# Altium schematic symbol library Chip_Passives.SchLib: 15 symbols
Pins are listed as number, name and electrical type; pins without a type are passive.

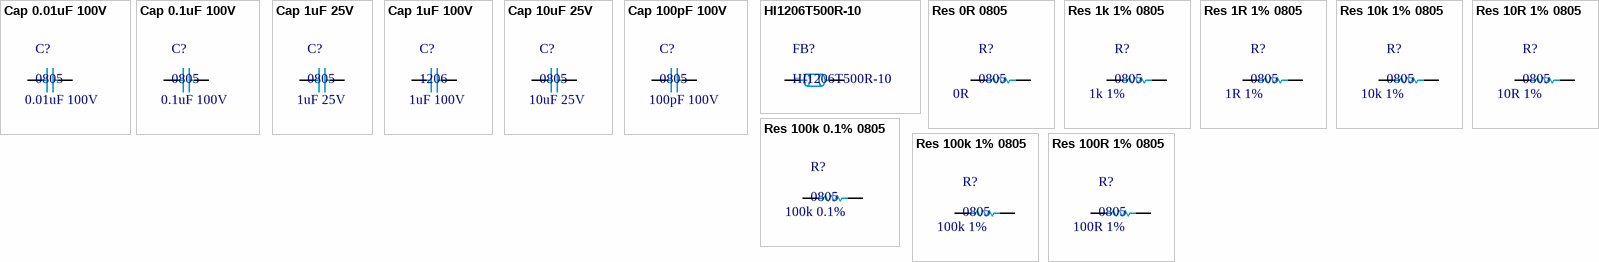
[diagram p0: symbols Cap 0.01uF 100V to Res 100R 1% 0805]

## Cap 0.01uF 100V
designator C?, comment 0805  value 0.01uF 100V
0805, X5R or better; Supplier 1: Digi-Key; Supplier Part Number 1: 1276-6845-2-ND; Supplier 2: Arrow; Supplier Part Number 2: HFLC7Kmwq4-6R2SVzaQAUvCwxvZH1YjWdj_EBba1ByE
footprint 0805 (Chip Capacitor, 2-Leads, Body 2.0x1.3mm, IPC Medium Density)
pins: 1, 2

## Cap 0.1uF 100V
designator C?, comment 0805  value 0.1uF 100V
0805, X5R or better; Supplier 1: Digi-Key; Supplier Part Number 1: 1276-6840-2-ND
footprint 0805 (Chip Capacitor, 2-Leads, Body 2.0x1.3mm, IPC Medium Density)
pins: 1, 2

## Cap 1uF 25V
designator C?, comment 0805  value 1uF 25V
0805, X5R or better; Supplier 1: Digi-Key; Supplier Part Number 1: 1276-1066-2-ND; Supplier 2: Digi-Key; Supplier Part Number 2: 1276-1066-1-ND
footprint 0805 (Chip Capacitor, 2-Leads, Body 2.0x1.3mm, IPC Medium Density)
pins: 1, 2

## Cap 1uF 100V
designator C?, comment 1206  value 1uF 100V
1206, X5R or better; Supplier 1: Digi-Key; Supplier Part Number 1: 1276-1838-1-ND
footprint 1206 (Chip Capacitor, 2-Leads, Body 3.2x1.6mm, IPC Medium Density)
pins: 1, 2

## Cap 10uF 25V
designator C?, comment 0805  value 10uF 25V
0805, X5R or better; Supplier 1: Mouser; Supplier Part Number 1: 81-GRM21BR61E106KA3L; Supplier 2: Digi-Key; Supplier Part Number 2: 490-5523-1-ND
footprint 0805 (Chip Capacitor, 2-Leads, Body 2.0x1.3mm, IPC Medium Density)
pins: 1, 2

## Cap 100pF 100V
designator C?, comment 0805  value 100pF 100V
0805, X5R or better; Supplier 1: Digi-Key; Supplier Part Number 1: 1276-2426-1-ND; Supplier 2: Digi-Key; Supplier Part Number 2: 1276-2426-2-ND; Supplier 3: Arrow; Supplier Part Number 3: L5XIfgkrxsBQF2sGZ85JNyFE59-nywaq7sHwLppiklbTEIlO4Ffw3x4_A6bjf4Mm
footprint 0805 (Chip Capacitor, 2-Leads, Body 2.0x1.3mm, IPC Medium Density)
pins: 1, 2

## HI1206T500R-10
designator FB?
50 Ohms @ 100MHz 1 Power, Signal Line Ferrite Bead 1206 (3216 Metric) 6A 10mOhm; Value: Ferrite Bead 50R 6A; Supplier 1: Digi-Key; Supplier 2: Mouser; Supplier Part Number 1: 240-2412-1-ND; Supplier Part Number 2: 875-HI1206T500R-10
footprint 1206 (Chip Capacitor, 2-Leads, Body 3.2x1.6mm, IPC Medium Density)
pins: 1, 2

## Res 0R 0805
designator R?, comment 0805  value 0R
Chip resistor; Supplier 1: Digi-Key; Supplier Part Number 1: RMCF0805ZT0R00TR-ND
footprint 0805 (Chip Capacitor, 2-Leads, Body 2.0x1.3mm, IPC Medium Density)
pins: 1, 2

## Res 1k 1% 0805
designator R?, comment 0805  value 1k 1%
Chip resistor, 1/8W 100PPM; Supplier 1: Digi-Key; Supplier Part Number 1: RMCF0805FT1K00TR-ND
footprint 0805 (Chip Capacitor, 2-Leads, Body 2.0x1.3mm, IPC Medium Density)
pins: 1, 2

## Res 1R 1% 0805
designator R?, comment 0805  value 1R 1%
Chip resistor; Supplier 1: Digi-Key; Supplier Part Number 1: RMCF0805FT1R00TR-ND; Supplier 2: Digi-Key; Supplier Part Number 2: RMCF0805FT1R00CT-ND
footprint 0805 (Chip Capacitor, 2-Leads, Body 2.0x1.3mm, IPC Medium Density)
pins: 1, 2

## Res 10k 1% 0805
designator R?, comment 0805  value 10k 1%
Chip resistor; Supplier 1: Digi-Key; Supplier Part Number 1: RMCF0805FT10K0TR-ND
footprint 0805 (Chip Capacitor, 2-Leads, Body 2.0x1.3mm, IPC Medium Density)
pins: 1, 2

## Res 10R 1% 0805
designator R?, comment 0805  value 10R 1%
Chip resistor; Supplier 1: Digi-Key; Supplier Part Number 1: RMCF0805FT10R0TR-ND
footprint 0805 (Chip Capacitor, 2-Leads, Body 2.0x1.3mm, IPC Medium Density)
pins: 1, 2

## Res 100k 0.1% 0805
designator R?, comment 0805  value 100k 0.1%
Chip resistor; Supplier 1: Digi-Key; Supplier Part Number 1: P100KDACT-ND; Supplier 2: Arrow; Supplier Part Number 2: 9OeC0DUXUKJ2EZdeRUj86o_XuPCKHvYbj4bRasCuPas
footprint 0805 (Chip Capacitor, 2-Leads, Body 2.0x1.3mm, IPC Medium Density)
pins: 1, 2

## Res 100k 1% 0805
designator R?, comment 0805  value 100k 1%
Chip resistor; Supplier 1: Digi-Key; Supplier 2: Digi-Key; Supplier Part Number 1: RMCF0805FT100KTR-ND; Supplier Part Number 2: RMCF0805FT100KCT-ND
footprint 0805 (Chip Capacitor, 2-Leads, Body 2.0x1.3mm, IPC Medium Density)
pins: 1, 2

## Res 100R 1% 0805
designator R?, comment 0805  value 100R 1%
Chip resistor; Supplier 1: Digi-Key; Supplier 2: Digi-Key; Supplier Part Number 1: RMCF0805FT100RCT-ND; Supplier Part Number 2: RMCF0805FT100RTR-ND
footprint 0805 (Chip Capacitor, 2-Leads, Body 2.0x1.3mm, IPC Medium Density)
pins: 1, 2